# EAGLE library part AD8317 (library ruark2)
8 GHz Logarithmic Amplifier IC Receiver Signal Strength Indication (RSSI) 8-LFCSP-VD (3x2)
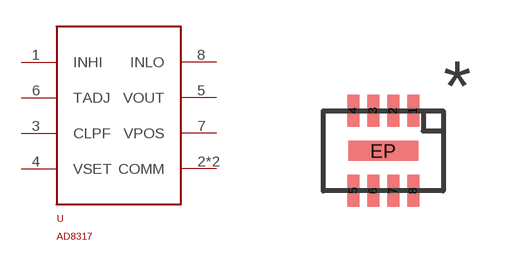
[diagram p26: symbol with the pads of AD8317; footprint AD8317]

Designator prefix -

## AD8317 (PARTNO: AD8317ACPZ-R7CT-ND)  [AD8317]
1  INHI
2  COMM
3  CLPF
4  VSET
5  VOUT
6  TADJ
7  VPOS
8  INLO
EP  COMM

## Footprint AD8317 (pad centres in mm)
smd 0.3 x 0.8: 1 0.75,1; 2 0.25,1; 3 -0.25,1; 4 -0.75,1; 5 -0.75,-1; 6 -0.25,-1; 7 0.25,-1; 8 0.75,-1
smd 1.75 x 0.5: EP 0,0